# Altium footprint library LEDKEY.PcbLib: 6 footprints
Each footprint in its own frame and in the unit in brackets; x right, y up, seen from the top. Pads: shape width x height; smd on the part's side, far side on the other; paste and mask are expansions set on the pad; w line width, h text height; cw(c..) or ccw(c..) is an arc to the next point about the centre after c.
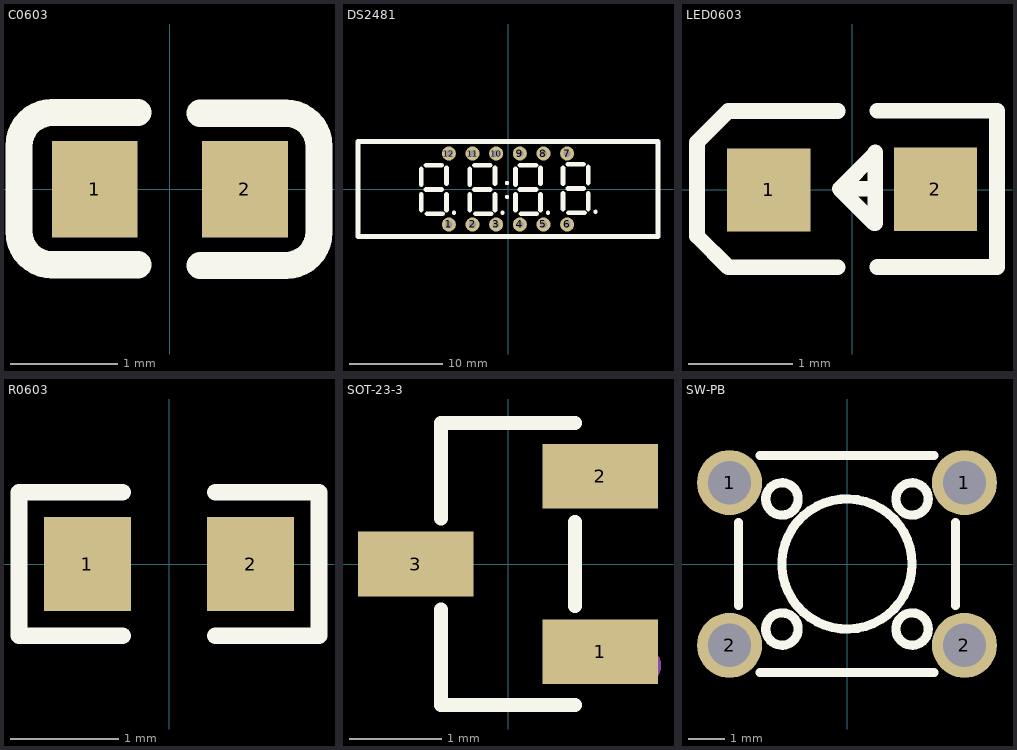
[diagram p0: the footprints below, top view; thin cyan lines are the x and y axes]

## C0603 [mm]
pads (2):
  rect 0.8x0.9 smd: 1(-0.7,0) 2(0.7,0)
Top Overlay:
  lines w0.254: -0.296,-0.704 -1.096,-0.704 cw(c-1.096,-0.394) -1.406,-0.394 -1.405,0.406 cw(c-1.096,0.406) -1.096,0.715 -0.296,0.715 ; 0.28,-0.71 1.08,-0.71 ccw(c1.08,-0.4) 1.39,-0.4 1.39,0.4 ccw(c1.08,0.4) 1.08,0.71 0.28,0.71

## DS2481 [mm] "4位数码管"
height 5.8
pads (12):
  round 1.5 hole 0.75: 1(-6.35,-3.81) 2(-3.81,-3.81) 3(-1.27,-3.81) 4(1.27,-3.81) 5(3.81,-3.81) 6(6.35,-3.81) 7(6.35,3.81) 8(3.81,3.81) 9(1.27,3.81) 10(-1.27,3.81) 11(-3.81,3.81) 12(-6.35,3.81)
Top Overlay:
  circle w0.254: c-5.8,-2.55 r0.1
  circle w0.254: c-0.1,0.65 r0.1
  circle w0.254: c-0.1,-0.85 r0.1
  circle w0.254: c-0.6,-2.55 r0.1
  circle w0.254: c4.3,-2.55 r0.1
  circle w0.254: c9.4,-2.45 r0.1
  lines w0.508: -9.3,-2.25 -9.3,-0.55 ; -9.3,0.45 -9.3,2.15 ; -8.8,-0.05 -7.1,-0.05 ; -8.8,2.55 -7.1,2.55 ; -8.7,-2.65 -7,-2.65 ; -6.6,-2.25 -6.6,-0.55 ; -6.6,0.55 -6.6,2.25 ; -4.1,-2.25 -4.1,-0.55 ; -4.1,0.45 -4.1,2.15 ; -3.6,-0.05 -1.9,-0.05 ; -3.6,2.55 -1.9,2.55 ; -3.5,-2.65 -1.8,-2.65 ; -1.4,-2.25 -1.4,-0.55 ; -1.4,0.55 -1.4,2.25 ; 0.8,-2.25 0.8,-0.55 ; 0.8,0.45 0.8,2.15 ; 1.3,-0.05 3,-0.05 ; 1.3,2.55 3,2.55 ; 1.4,-2.65 3.1,-2.65 ; 3.5,-2.25 3.5,-0.55 ; 3.5,0.55 3.5,2.25 ; 5.9,-2.15 5.9,-0.45 ; 5.9,0.55 5.9,2.25 ; 6.4,0.05 8.1,0.05 ; 6.4,2.65 8.1,2.65 ; 6.5,-2.55 8.2,-2.55 ; 8.6,-2.15 8.6,-0.45 ; 8.6,0.65 8.6,2.35 ; 16.1,-5.1 -16.1,-5.1 -16.1,5.1 16.1,5.1 16.1,-5

## LED0603 [mm]
pads (2):
  rect 0.8x0.8 smd: 1(-0.799,-0.003) 2(0.799,0.004)
Top Overlay:
  lines w0.15: -0.14,-0.746 -1.19,-0.746 -1.49,-0.446 -1.49,-0.346 -1.49,0.354 -1.49,0.454 -1.19,0.754 -0.14,0.754 ; 0.22,0.007 -0.12,0.007 ; 0.24,-0.744 1.39,-0.744 ; 0.24,0.757 1.39,0.757 1.39,-0.723 ; -0.12,0.007 0.22,0.347 0.22,0.357 0.22,-0.324 0.21,-0.324 -0.12,0.007
Mechanical 15:
  region: 0.529,0.068 1.069,0.068 1.069,-0.062 0.529,-0.062
  region: 0.735,-0.267 0.735,0.273 0.865,0.273 0.865,-0.267
  region: -1.07,0.062 -0.53,0.062 -0.53,-0.068 -1.07,-0.068

## R0603 [mm]
pads (2):
  rect 0.806x0.864 smd: 1(-0.753,0) 2(0.753,0)
Top Overlay:
  lines w0.152: -0.426,-0.661 -1.385,-0.661 -1.385,0.661 -0.426,0.661 ; 0.426,-0.661 1.385,-0.661 1.385,0.661 0.426,0.661
Top Paste:
  region: 1.195,0.45 0.395,0.45 0.345,0.4 0.345,0.172 0.715,0.172 0.715,-0.158 0.345,-0.158 0.345,-0.4 0.395,-0.45 1.195,-0.45 1.245,-0.4 1.245,0.4
  region: -0.355,0.4 -0.355,0.172 -0.735,0.172 -0.735,-0.158 -0.355,-0.158 -0.355,-0.4 -0.405,-0.45 -1.195,-0.45 -1.245,-0.4 -1.245,0.4 -1.195,0.45 -0.405,0.45

## SOT-23-3 [mm] "SOT-23-3_L2.9-W1.3-P1.90-LS2.4-BR"
pads (3):
  rect 1.25x0.7 smd: 1(1,-0.95) 2(1,0.95) 3(-1,0)
Top Overlay:
  lines w0.152: -0.726,-0.495 -0.726,-1.526 0.726,-1.526 ; -0.726,0.495 -0.726,1.526 0.726,1.526 ; 0.726,-0.455 0.726,0.455
Mechanical 15:
  circle w0.2: c1.46,-1.1 r0.1

## SW-PB [mm] "SW-TH_4P-L6.0-W6.0-P4.50-LS6.5"
pads (4):
  round 1.8 hole 1.2: 1(-3.25,2.25) 1(3.25,2.25) 2(-3.25,-2.25) 2(3.25,-2.25)
Top Overlay:
  circle w0.254: c0,0 r1.8
  circle w0.254: c1.8,1.8 r0.447
  circle w0.254: c-1.8,1.8 r0.447
  circle w0.254: c-1.8,-1.8 r0.447
  circle w0.254: c1.8,-1.8 r0.447
  lines w0.254: -3,-1.147 -3,1.147 ; -2.404,-3 2.404,-3 ; -2.404,3 2.404,3 ; 3,-1.147 3,1.147